# Altium footprint library PCB_Inductors.PcbLib: 2 footprints
Each footprint in its own frame and in the unit in brackets; x right, y up, seen from the top. Pads: shape width x height; smd on the part's side, far side on the other; paste and mask are expansions set on the pad; w line width, h text height; cw(c..) or ccw(c..) is an arc to the next point about the centre after c.
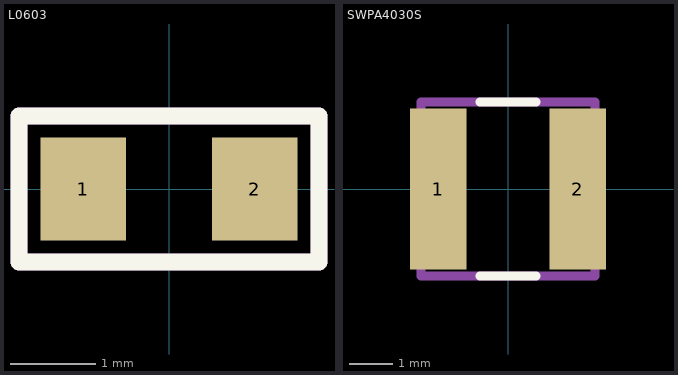
[diagram p0: the footprints below, top view; thin cyan lines are the x and y axes]

## L0603 [mm]
pads (2):
  rect 1x1.2 smd: 1(-1,0) 2(1,0)
Top Overlay:
  lines w0.2: -1.75,-0.85 -1.75,0.85 1.75,0.85 1.75,-0.85 -1.75,-0.85
Top Assembly:
  lines w0.2: -1.75,-0.85 -1.75,0.85 1.75,0.85 1.75,-0.85 -1.75,-0.85
  text ".Designator" at -3.499,-0.233 h0.7
3D body "L0603.STEP": height 0.81, standoff 0.01, extent -0.8,-0.475 0.8,0.475

## SWPA4030S [mm]
pads (2):
  rect 1.3x3.7 smd: 1(-1.6,0) 2(1.6,0)
Top Overlay:
  lines w0.2: -0.65,-2 0.65,-2 ; -0.65,2 0.65,2
Top Assembly:
  lines w0.2: -2,-2 -2,2 2,2 2,-2 -2,-2
  text ".Designator" at -3.499,-0.233 h0.7
3D body "IND4030.STEP": height 3.01, standoff 0.01, extent -2,-2 2,2